# Altium footprint library PcbLib12.PcbLib: 3 footprints
Each footprint in its own frame and in the unit in brackets; x right, y up, seen from the top. Pads: shape width x height; smd on the part's side, far side on the other; paste and mask are expansions set on the pad; w line width, h text height; cw(c..) or ccw(c..) is an arc to the next point about the centre after c.
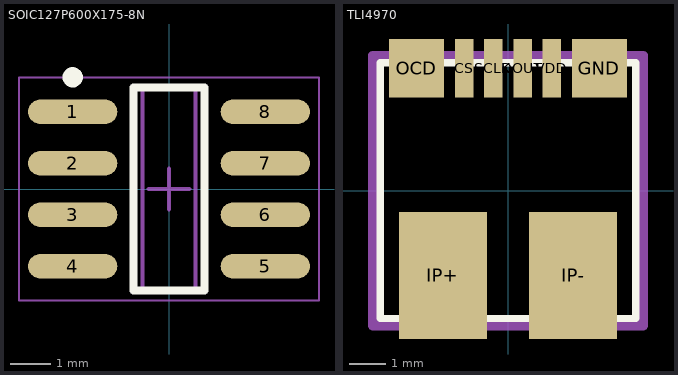
[diagram p0: the footprints below, top view; thin cyan lines are the x and y axes]

## QFN50P700X700X100_HS-15N [mm] "QFN, 14-Leads, Body 7.00x7.00mm, Pitch 0.50mm, Thermal Pad 4.00x2.20mm, IPC Medium Density"
height 1

## SOIC127P600X175-8N [mm] "SOIC, 8-Leads, Body 4.90x1.27mm, Pitch 1.27mm, IPC Medium Density"
height 1.75
pads (8):
  oval 2.2x0.6 smd: 1(-2.375,1.905) 2(-2.375,0.635) 3(-2.375,-0.635) 4(-2.375,-1.905) 5(2.375,-1.905) 6(2.375,-0.635) 7(2.375,0.635) 8(2.375,1.905)
Top Overlay:
  circle w0.25: c-2.375,2.755 r0.125
  lines w0.2: -0.875,-2.5 -0.875,2.5 0.875,2.5 0.875,-2.5 -0.875,-2.5
Mechanical 13:
  lines w0.1: -0.65,-2.5 -0.65,2.5 0.65,2.5 0.65,-2.5 -0.65,-2.5
Mechanical 15:
  lines w0.05: -3.7,-2.75 -3.7,2.75 3.7,2.75 3.7,-2.75 -3.7,-2.75
  lines w0.1: -0.5,0 0.5,0 ; 0,-0.5 0,0.5
3D body: height 1.75, standoff 1.35, extent -0.65,-2.5 0.65,2.5

## TLI4970 [mm]
pads (8):
  rect 0.5x1.6 smd: CS(-1.2,3.35) DOUT(0.4,3.35) SCLK(-0.4,3.35) VDD(1.2,3.35)
  rect 1.5x1.6 smd: GND(2.5,3.35) OCD(-2.5,3.35)
  rect 2.4x3.48 smd: IP+(-1.78,-2.32) IP-(1.78,-2.32)
Top Overlay:
  lines w0.2: -3.5,-3.5 3.5,-3.5 3.5,3.5 -3.5,3.5 -3.5,-3.5
Mechanical 15:
  lines w0.254: -3.7,-3.7 -3.7,3.7 3.7,3.7 3.7,-3.7 -3.7,-3.7
3D body: height 1, standoff 0.05, extent -3.5,-3.5 3.5,3.5